# EAGLE library part SWD_PROG_20PIN_SAMTEC_TST-110-01-L-D (library Connector_SWD)
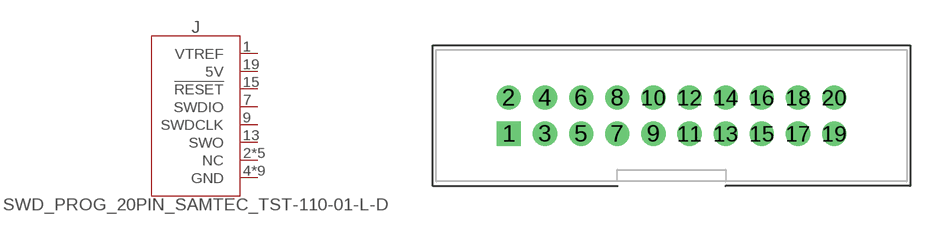
[diagram p2: symbol with the pads of SAMTEC_TST-110-01-L-D; footprint SAMTEC_TST-110-01-L-D]

Designator prefix J

## SWD_PROG_20PIN_SAMTEC_TST-110-01-L-D  [SAMTEC_TST-110-01-L-D]
1  VTREF  pas
2  NC  nc
3  NC  nc
4  GND  pwr
5  NC  nc
6  GND  pwr
7  SWDIO
8  GND  pwr
9  SWDCLK  in
10  GND  pwr
11  NC  nc
12  GND  pwr
13  SWO  out
14  GND  pwr
15  !RESET  in
16  GND  pwr
17  NC  nc
18  GND  pwr
19  5V  pwr
20  GND  pwr

## Footprint SAMTEC_TST-110-01-L-D (pad centres in mm)
drill 1 pad 1.7 square: 1 -11.43,-1.27
drill 1 pad 1.7: 2 -11.43,1.27; 3 -8.89,-1.27; 4 -8.89,1.27; 5 -6.35,-1.27; 6 -6.35,1.27; 7 -3.81,-1.27; 8 -3.81,1.27; 9 -1.27,-1.27; 10 -1.27,1.27; 11 1.27,-1.27; 12 1.27,1.27; 13 3.81,-1.27; 14 3.81,1.27; 15 6.35,-1.27; 16 6.35,1.27; 17 8.89,-1.27; 18 8.89,1.27; 19 11.43,-1.27; 20 11.43,1.27